# EAGLE library part L9637D (library st-microelectronics)
ISO 9141 INTERFACE Source: 1765.pdf
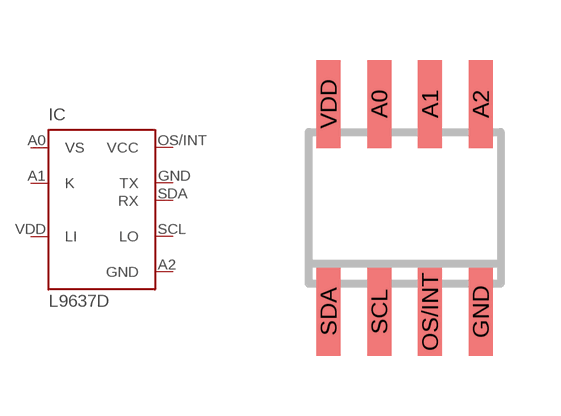
[diagram p30: symbol with the pads of SO08; footprint SO08]

Designator prefix IC

## L9637D (MPN: L9637D; OC_FARNELL: unknown; OC_NEWARK: 56P8926)  [SO08]
A0  VS  pwr
A1  K  in
A2  GND  pwr
GND  TX  in
OS/INT  VCC  pwr
SCL  LO  out
SDA  RX  out
VDD  LI  in

## Footprint SO08 (pad centres in mm)
SMALL OUTLINE INTEGRATED CIRCUIT body 3.9 mm/JEDEC MS-012AA
smd 0.6 x 2.2: A0 -0.635,2.6; A1 0.635,2.6; A2 1.905,2.6; GND 1.905,-2.6; OS/INT 0.635,-2.6; SCL -0.635,-2.6; SDA -1.905,-2.6; VDD -1.905,2.6